# EAGLE library part USBULC6 (library STMicroelectrionics)
2-line STMicroelectronics IPAD Ultra Low Capacitance TVS Diode for high speed USB.
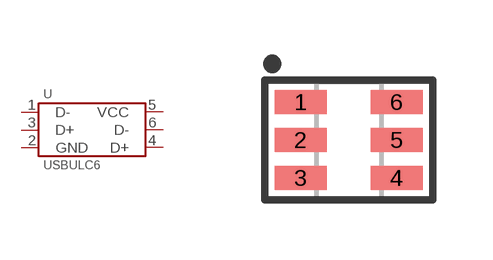
[diagram p1: symbol with the pads of SOT23-6; footprint SOT23-6]

Designator prefix U

## USBULC6  [SOT23-6]
1  D-
2  GND
3  D+
4  D+
5  VCC
6  D-

## Footprint SOT23-6 (pad centres in mm)
smd 1.3 x 0.6: 1 -1.2,0.95; 2 -1.2,0; 3 -1.2,-0.95; 4 1.2,-0.95; 5 1.2,0; 6 1.2,0.95